# Altium footprint library 2440PCBV5_20140403.PcbLib: 166 footprints (part 7 of 11)
Each footprint in its own frame and in the unit in brackets; x right, y up, seen from the top. Pads: shape width x height; smd on the part's side, far side on the other; paste and mask are expansions set on the pad; w line width, h text height; cw(c..) or ccw(c..) is an arc to the next point about the centre after c.
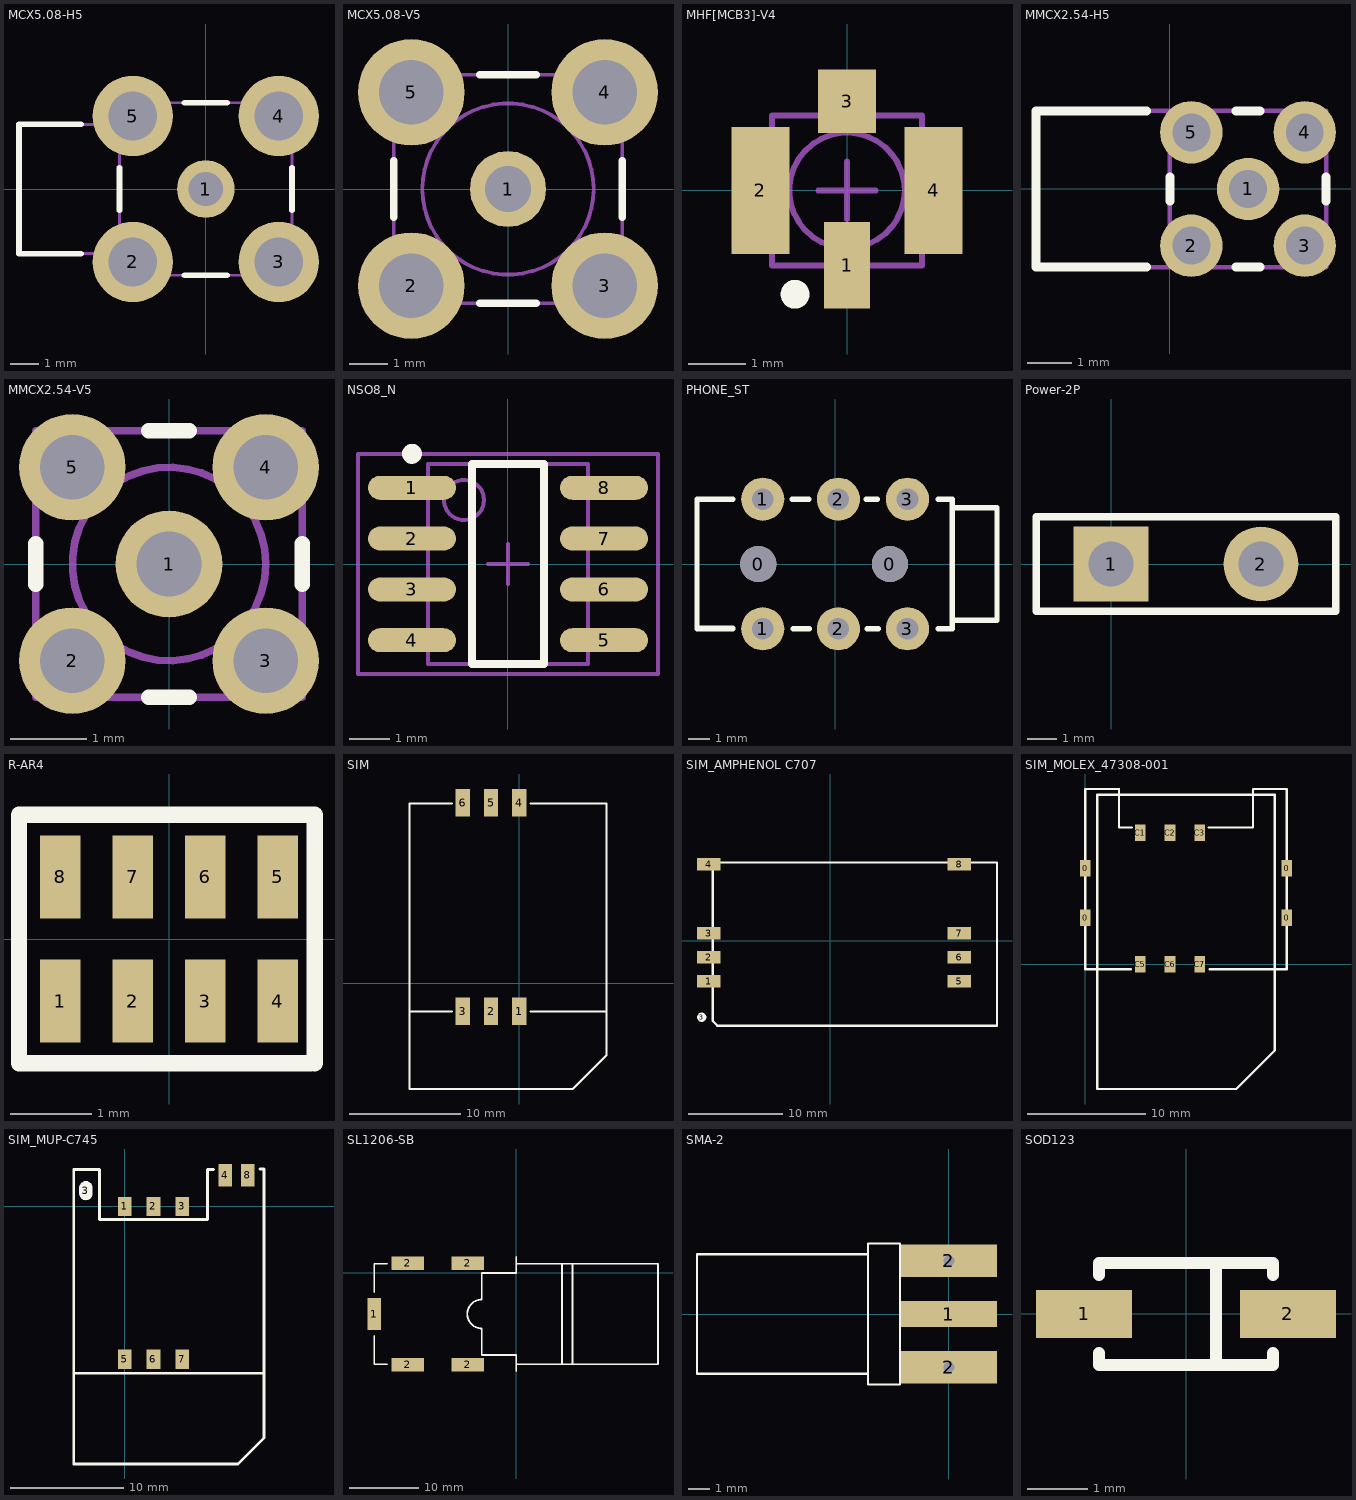
[diagram p6: the footprints below, top view; thin cyan lines are the x and y axes]

## MCX5.08-H5 [mm] "Connector; RF Coaxial, MCX, Thru-Hole; 5 Position; Right Angle"
height 5.99
pads (5):
  round 2 hole 1.2: 1(0,0)
  round 2.8 hole 1.7: 2(-2.54,-2.54) 3(2.54,-2.54) 4(2.54,2.54) 5(-2.54,2.54)
Top Overlay:
  lines w0.2: -4.34,-2.25 -6.5,-2.25 -6.5,2.25 -4.34,2.25 ; -3,-0.74 -3,0.74 ; -0.74,-3 0.74,-3 ; -0.74,3 0.74,3 ; 3,-0.74 3,0.74
Mechanical 13:
  lines w0.1: -3,-2.25 -6.5,-2.25 -6.5,2.25 -3,2.25 ; -3,-3 -3,3 3,3 3,-3 -3,-3
3D body: height 5.99, standoff 0, extent -2.999,-2.999 2.999,2.999
3D body: height 5.25, standoff 0.76, extent -6.499,-2.249 -2.999,2.242

## MCX5.08-V5 [mm] "Connector; RF Coaxial, MCX, Thru-Hole; 5 Position; Vertical"
height 5.75
pads (5):
  round 2 hole 1.2: 1(0,0)
  round 2.8 hole 1.7: 2(-2.54,-2.54) 3(2.54,-2.54) 4(2.54,2.54) 5(-2.54,2.54)
Top Overlay:
  lines w0.2: -3,-0.74 -3,0.74 ; -0.74,-3 0.74,-3 ; -0.74,3 0.74,3 ; 3,-0.74 3,0.74
Mechanical 13:
  circle w0.1: c0,0 r2.25
  lines w0.1: -3,-3 -3,3 3,3 3,-3 -3,-3
3D body: height 1.6, standoff 0, extent -3,-3 3,3
3D body: height 5.75, standoff 1.6, extent -2.26,-2.26 2.26,2.26

## MHF[MCB3]-V4 [mm] "Connector; RF Coaxial, MCB SM; 4 Position; Vertical, Body 3.1x3.0mm (LxW)"
height 1.3
pads (4):
  rect 0.8x1.5 smd: 1(0,-1.3)
  rect 1x2.2 smd: 2(-1.5,0) 4(1.5,0)
  rect 1x1.1 smd: 3(0,1.55)
Top Overlay:
  circle w0.25: c-0.9,-1.8 r0.125
Mechanical 13:
  circle w0.1: c0,0 r1
  lines w0.1: -1.3,-1.3 1.3,-1.3 1.3,1.3 -1.3,1.3 -1.3,-1.3
Mechanical 15:
  lines w0.1: -0.5,0 0.5,0 ; 0,-0.5 0,0.5
3D body: height 1.3, standoff 0.35, extent -1.008,-1.008 1.008,1.008
3D body: height 0.35, standoff 0, extent -1.299,-1.299 1.299,1.299

## MMCX2.54-H5 [mm] "Connector; RF Coaxial, MMCX, Thru-Hole; 5 Position; Right Angle"
height 3.8
pads (5):
  round 1.4 hole 0.85: 1(1.75,0) 2(0.48,-1.27) 3(3.02,-1.27) 4(3.02,1.27) 5(0.48,1.27)
Top Overlay:
  lines w0.2: -0.52,-1.75 -3,-1.75 -3,1.75 -0.52,1.75 ; 0,-0.27 0,0.27 ; 1.48,-1.75 2.02,-1.75 ; 1.48,1.75 2.02,1.75 ; 3.5,-0.27 3.5,0.27
Mechanical 13:
  lines w0.1: 0,-1.75 0,1.75 ; -3,-1.75 3.5,-1.75 3.5,1.75 -3,1.75 -3,-1.75
3D body: height 3.8, standoff 0, extent 0,-1.749 3.499,1.749
3D body: height 3.81, standoff 0.32, extent -3,-1.747 0,1.747

## MMCX2.54-V5 [mm] "Connector; RF Coaxial, MMCX, Thru-Hole; 5 Position; Vertical"
height 4.45
pads (5):
  round 1.4 hole 0.85: 1(0,0) 2(-1.27,-1.27) 3(1.27,-1.27) 4(1.27,1.27) 5(-1.27,1.27)
Top Overlay:
  lines w0.2: -1.75,-0.27 -1.75,0.27 ; -0.27,-1.75 0.27,-1.75 ; -0.27,1.75 0.27,1.75 ; 1.75,-0.27 1.75,0.27
Mechanical 13:
  circle w0.1: c0,0 r1.27
  lines w0.1: -1.75,-1.75 -1.75,1.75 1.75,1.75 1.75,-1.75 -1.75,-1.75
3D body: height 1.65, standoff 0, extent -1.75,-1.75 1.75,1.75
3D body: height 4.45, standoff 1.65, extent -1.28,-1.28 1.28,1.28

## NSO8_N [mm]
height 1.75
pads (8):
  oval 2.2x0.6 smd: 1(-2.4,1.905) 2(-2.4,0.635) 3(-2.4,-0.635) 4(-2.4,-1.905) 5(2.4,-1.905) 6(2.4,-0.635) 7(2.4,0.635) 8(2.4,1.905)
Top Overlay:
  circle w0.25: c-2.4,2.755 r0.125
  lines w0.2: -0.9,-2.5 0.9,-2.5 0.9,2.5 -0.9,2.5 -0.9,-2.5
Mechanical 13:
  circle w0.1: c-1.1,1.6 r0.5
  lines w0.1: -2,-2.5 2,-2.5 2,2.5 -2,2.5 -2,-2.5
Mechanical 15:
  lines w0.1: -0.5,0 0.5,0 ; 0,-0.5 0,0.5 ; -3.75,-2.75 3.75,-2.75 3.75,2.75 -3.75,2.75 -3.75,-2.75
3D body: height 1.75, standoff 0, extent -2,-2.5 2,2.5

## PHONE_ST [mm]
pads (8):
  round 1.676 hole 1.676: 0(-3.556,0) 0(2.54,0)
  round 2 hole 1: 1(-3.35,-3) 1(-3.35,3) 2(0.15,-3) 2(0.15,3) 3(3.35,-3) 3(3.35,3)
Top Overlay:
  lines w0.254: -6.393,-2.969 -4.742,-2.969 ; -4.742,-3.007 -6.393,-3.007 -6.393,3 -4.742,3 ; -1.986,3 -1.224,3 ; -1.948,-3.007 -1.186,-3.007 ; 1.443,3 1.951,3 ; 1.481,-3.007 1.989,-3.007 ; 4.783,-3.007 5.33,-3.007 ; 4.783,3 5.418,3 5.418,-3.007 ; 5.418,-2.6 7.493,-2.6 7.493,2.6 5.418,2.6

## Power-2P [mil]
pads (2):
  rect 100x100 hole 60: 1(0,0)
  round 100 hole 60: 2(200,0)
Top Overlay:
  lines w10: -100,-62.99 -100,62.99 299,62.99 ; -97,-62.99 300,-62.99 300,62.99

## R-AR4 [mil]
pads (8):
  rect 19.68x40 smd: 1(-52.5,-30) 2(-17.5,-30) 3(17.5,-30) 4(52.5,-30) 5(52.5,30) 6(17.5,30) 7(-17.5,30) 8(-52.5,30)
Top Overlay:
  lines w7.87: 68.5,-60 -72.5,-60 -72.5,60 70.5,60 70.5,-60
3D body: height 21.65, standoff 0, extent -62.59,-32.74 63.39,30.25

## SIM [mm]
pads (6):
  rect 1.3x2.5 smd: 1(0,-2.5) 2(-2.55,-2.5) 3(-5.1,-2.5) 4(0,16.306) 5(-2.55,16.306) 6(-5.1,16.306)
Top Overlay:
  lines w0.203: -9.906,-9.525 -9.906,16.25 -6.102,16.25 ; -9.906,-2.54 -6.096,-2.54 ; -9.895,-9.525 3.175,-9.525 ; 1.016,-2.54 7.874,-2.54 ; 1.022,16.25 7.874,16.25 7.874,-6.13 ; 2.54,-9.525 4.826,-9.525 7.874,-6.477 7.874,-5.715 ; 7.874,-5.461 7.874,-1.524

## SIM_AMPHENOL C707 [mm]
pads (9):
  rect 2.5x1.3 smd: 1(-12.869,-4.295) 2(-12.869,-1.755) 3(-12.869,0.785) 4(-12.869,8.105) 5(13.631,-4.295) 6(13.631,-1.755) 7(13.631,0.785) 8(13.631,8.105)
  round 1 on Top Overlay: 3(-13.631,-8.105)
Top Overlay:
  lines w0.254: -12.469,-8.505 -11.98,-8.994 17.631,-8.994 17.631,8.278 -11.98,8.278 -12.469,7.789 -12.469,7.77 -12.469,-8.505

## SIM_MOLEX_47308-001 [mm] "SIM card slot, push-pull type, 6 pins"
height 2
pads (10):
  rect 0.9x1.4 smd: 0(0,3.95) 0(0,8.15) 0(17.1,3.95) 0(17.1,8.15) C1(4.65,11.2) C2(7.19,11.2) C3(9.73,11.2) C5(4.65,0) C6(7.19,0) C7(9.73,0)
Top Overlay:
  lines w0.2: 3.85,-0.425 0,-0.425 0,14.9 2.85,14.9 ; 3.925,11.625 2.85,11.625 2.85,14.9 ; 10.475,11.625 14.25,11.625 14.25,14.9 17.1,14.9 17.1,-0.425 10.55,-0.425 ; 2.85,14.9 2.85,14.9 ; 1,-10.6 1,14.4 16.1,14.4 16.1,-7.325 12.825,-10.6 1,-10.6
3D body: height 2, standoff -0.05, extent 0,-0.7 17.1,14.9
3D body: height 1.9, standoff 1, extent 1,-10.6 16.1,14.4

## SIM_MUP-C745 [mm]
pads (9):
  rect 1.2x1.7 smd: 1(0,0) 2(2.54,0) 3(5.08,0) 5(0,-13.5) 6(2.54,-13.5) 7(5.08,-13.5)
  oval 1.2x1.7 on Top Overlay: 3(-3.429,1.397)
  rect 1.2x2 smd: 4(8.88,2.75) 8(10.88,2.75)
Top Overlay:
  lines w0.254: -4.5,-14.732 12.319,-14.732 ; 7.855,3.25 7.3,3.25 7.3,-1.143 -2.22,-1.143 -2.22,3.25 -4.5,3.25 -4.5,-22.75 10.016,-22.75 12.3,-20.466 12.3,3.302 11.938,3.302

## SL1206-SB [mm]
pads (5):
  rect 2x4.7 smd: 1(-20.6,-5.95)
  rect 4.7x2 smd: 2(-15.75,-13.3) 2(-15.75,1.4) 2(-7.05,-13.3) 2(-7.05,1.4)
Top Overlay:
  lines w0.254: -20.6,-9.125 -20.6,-13.25 -18.761,-13.25 ; -20.6,-2.775 -20.6,1.35 -18.695,1.35 ; -0.006,-13.25 0,-13.244 6.64,-13.244 ; 0,-14.205 0,-11.919 ; 0,-11.9 -5,-11.9 -5,-8.05 cw(c-5,-5.95) -5,-3.85 -5,0 0,0 0,2.305 ; 0,1.35 6.64,1.35 ; 6.64,-13.244 6.64,1.35 ; 6.64,-13.244 8.14,-13.244 ; 6.64,1.35 8.14,1.35 ; 8.14,-13.244 8.14,1.35 ; 8.14,-13.244 20.54,-13.244 20.54,1.35 8.14,1.35

## SMA-2 [mm]
pads (3):
  rect 4.5x1.2 smd: 1(0,0)
  rect 4.5x1.524 hole 0.5: 2(0,-2.5) 2(0,2.5)
Top Overlay:
  lines w0.1: -3.8,-2.8 -11.8,-2.8 -11.8,2.8 -3.8,2.8 ; -3.8,-3.3 -3.8,3.3 -2.3,3.3 -2.3,-3.3 -3.8,-3.3

## SOD123 [mm] "SOD-123; 2 Leads; Body 2.7 x 1.6 mm, (LxW)"
height 1.35
pads (2):
  rect 1.6x0.8 smd: 1(-1.7,0) 2(1.7,0)
Top Overlay:
  lines w0.2: -1.45,-0.65 -1.45,-0.85 1.45,-0.85 1.45,-0.65 ; -1.45,0.65 -1.45,0.85 1.45,0.85 1.45,0.65 ; 0.5,-0.85 0.5,0.85